# Altium footprint library PcbLib1_Source_IoT.PcbLib: 58 footprints (part 2 of 4)
Each footprint in its own frame and in the unit in brackets; x right, y up, seen from the top. Pads: shape width x height; smd on the part's side, far side on the other; paste and mask are expansions set on the pad; w line width, h text height; cw(c..) or ccw(c..) is an arc to the next point about the centre after c.
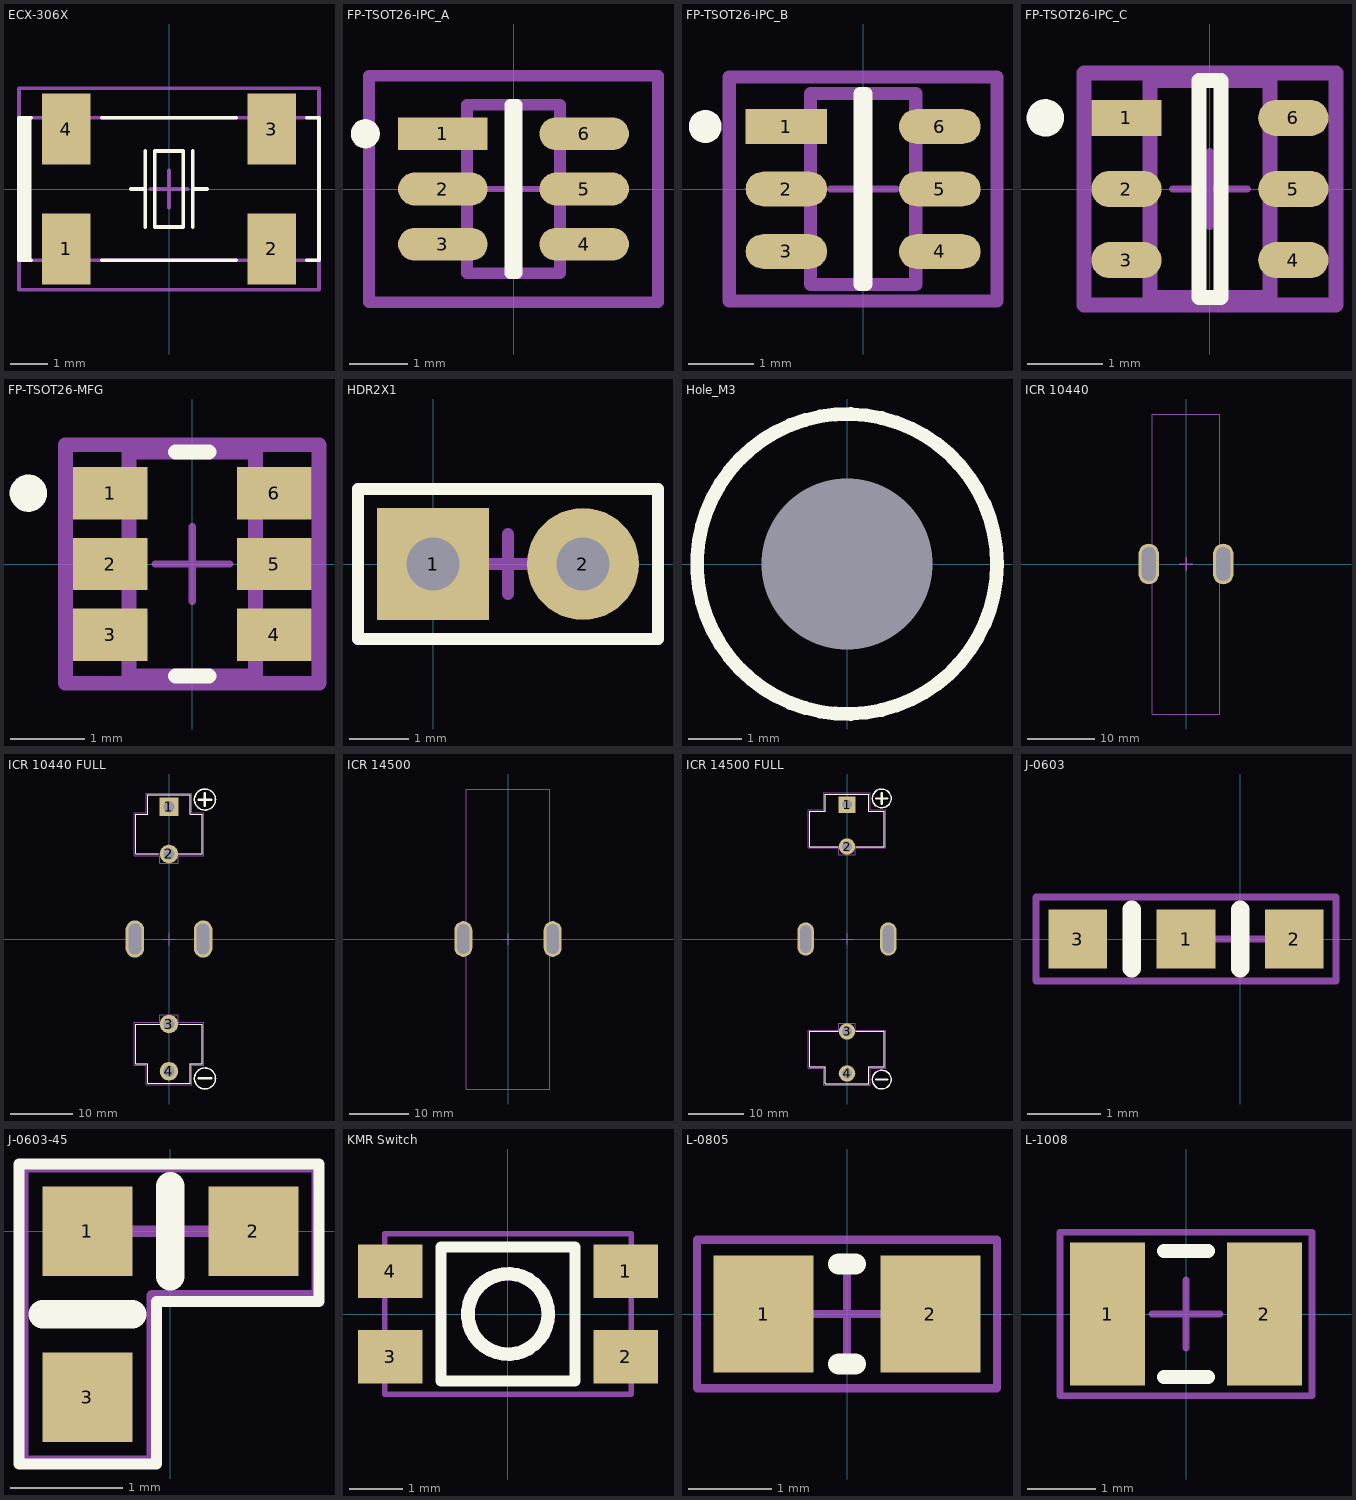
[diagram p1: the footprints below, top view; thin cyan lines are the x and y axes]

## ECX-306X [mm]
pads (4):
  rect 1.3x1.9 smd mask+0.1: 1(-2.75,-1.6) 2(2.75,-1.6) 3(2.75,1.6) 4(-2.75,1.6)
Top Overlay:
  rectangle: -4.013,-1.905 -3.683,1.905
  lines w0.1: -3.683,-1.905 -4.013,-1.905 -4.013,1.905 -3.683,1.905 ; -1.8,-1.905 1.8,-1.905 ; -1.8,1.905 1.8,1.905 ; -1.016,0 -0.635,0 ; -0.635,-1.016 -0.635,1.016 ; 0.635,-1.016 0.635,1.016 ; 0.635,0 1.016,0 ; 3.683,-1.905 4.013,-1.905 4.013,1.905 3.683,1.905 ; -0.381,-1.016 -0.381,1.016 0.381,1.016 0.381,-1.016 -0.381,-1.016
Top Assembly:
  lines w0.1: -4.013,-1.905 -4.013,1.905 4.013,1.905 4.013,-1.905 -4.013,-1.905
  text "'.Designator'" at -1.88,-0.381 h1.5
Mechanical:
  lines w0.1: -0.5,0 0.5,0 ; 0,-0.5 0,0.5 ; -4.013,-2.692 -4.013,2.692 4.013,2.692 4.013,-2.692 -4.013,-2.692
3D body "User Library-ZM206.step": height 2.53, standoff 0, extent -4,-1.9 4,1.9

## FP-TSOT26-IPC_A [mm]
pads (6):
  rect 1.54x0.566 smd paste+0 mask+0: 1(-1.216,0.95)
  rrect100% 1.54x0.566 smd paste+0 mask+0: 2(-1.216,0) 3(-1.216,-0.95) 4(1.216,-0.95) 5(1.216,0) 6(1.216,0.95)
Top Overlay:
  circle w0.25: c-2.55,0.95 r0.125
  lines w0.2: -0.054,-1.45 -0.054,1.45 0.054,1.45 0.054,-1.45 -0.054,-1.45
Top Assembly:
  lines w0.2: -2.485,-1.95 2.485,-1.95 2.485,1.95 -2.485,1.95 -2.485,-1.95
  text "'.Designator'" at 0,0.188 h1
Top Courtyard:
  lines w0.2: -2.485,-1.95 2.485,-1.95 2.485,1.95 -2.485,1.95 -2.485,-1.95
Top 3D Body:
  lines w0.2: -0.8,-1.45 0.8,-1.45 0.8,1.45 -0.8,1.45 -0.8,-1.45
Top Component Center:
  lines w0.1: -0.5,0 0.5,0 ; 0,-0.5 0,0.5
3D body "IC_Diodes_Inc_AP63205WU-7_eec.STEP": height 0.25, standoff 0, extent -2.485,-1.95 2.485,1.95

## FP-TSOT26-IPC_B [mm]
pads (6):
  rect 1.24x0.526 smd paste+0 mask+0: 1(-1.165,0.95)
  rrect100% 1.24x0.526 smd paste+0 mask+0: 2(-1.165,0) 3(-1.165,-0.95) 4(1.166,-0.95) 5(1.166,0) 6(1.166,0.95)
Top Overlay:
  circle w0.25: c-2.4,0.95 r0.125
  lines w0.2: -0.046,-1.45 -0.046,1.45 0.046,1.45 0.046,-1.45 -0.046,-1.45
Top Assembly:
  lines w0.2: -2.035,-1.7 -2.035,1.7 2.035,1.7 2.035,-1.7 -2.035,-1.7
  text "'.Designator'" at 0,0.188 h1
Top Courtyard:
  lines w0.2: -2.035,-1.7 -2.035,1.7 2.035,1.7 2.035,-1.7 -2.035,-1.7
Top 3D Body:
  lines w0.2: -0.8,-1.45 -0.8,1.45 0.8,1.45 0.8,-1.45 -0.8,-1.45
Top Component Center:
  lines w0.1: -0.5,0 0.5,0 ; 0,-0.5 0,0.5
3D body "IC_Diodes_Inc_AP63205WU-7_eec.STEP": height 0.25, standoff 0, extent -2.035,-1.7 2.035,1.7

## FP-TSOT26-IPC_C [mm]
pads (6):
  rect 0.94x0.486 smd paste+0 mask+0: 1(-1.115,0.95)
  rrect100% 0.94x0.486 smd paste+0 mask+0: 2(-1.115,0) 3(-1.115,-0.95) 4(1.116,-0.95) 5(1.116,0) 6(1.116,0.95)
Top Overlay:
  circle w0.25: c-2.2,0.95 r0.125
  lines w0.2: -0.146,-1.45 -0.146,1.45 0.146,1.45 0.146,-1.45 -0.146,-1.45
Top Assembly:
  lines w0.2: -1.685,-1.55 -1.685,1.55 1.685,1.55 1.685,-1.55 -1.685,-1.55
  text "'.Designator'" at 0,0.188 h1
Top Courtyard:
  lines w0.2: -1.685,-1.55 -1.685,1.55 1.685,1.55 1.685,-1.55 -1.685,-1.55
Top 3D Body:
  lines w0.2: -0.8,-1.45 -0.8,1.45 0.8,1.45 0.8,-1.45 -0.8,-1.45
Top Component Center:
  lines w0.1: -0.5,0 0.5,0 ; 0,-0.5 0,0.5
3D body "IC_Diodes_Inc_AP63205WU-7_eec.STEP": height 0.25, standoff 0, extent -1.685,-1.55 1.685,1.55

## FP-TSOT26-MFG [mm]
pads (6):
  rect 1x0.7 smd paste+0 mask+0: 1(-1.099,0.95) 2(-1.099,0) 3(-1.099,-0.95) 4(1.099,-0.95) 5(1.099,0) 6(1.099,0.95)
Top Overlay:
  circle w0.25: c-2.2,0.95 r0.125
  lines w0.2: -0.225,-1.5 0.225,-1.5 ; -0.225,1.5 0.225,1.5
Top Assembly:
  lines w0.2: -1.699,-1.6 -1.699,1.6 1.699,1.6 1.699,-1.6 -1.699,-1.6
  text "'.Designator'" at 0,0.188 h1
Top Courtyard:
  lines w0.2: -1.699,-1.6 -1.699,1.6 1.699,1.6 1.699,-1.6 -1.699,-1.6
Top 3D Body:
  lines w0.2: -0.85,-1.5 -0.85,1.5 0.85,1.5 0.85,-1.5 -0.85,-1.5
Top Component Center:
  lines w0.1: -0.5,0 0.5,0 ; 0,-0.5 0,0.5
3D body "IC_Diodes_Inc_AP63205WU-7_eec.STEP": height 0.25, standoff 0, extent -1.699,-1.6 1.699,1.6

## HDR2X1 [mm]
pads (2):
  rect 1.9x1.9 hole 0.9: 1(0,0)
  round 1.9 hole 0.9: 2(2.54,0)
Top Overlay:
  lines w0.2: -1.27,-1.27 -1.27,1.27 3.81,1.27 3.81,-1.27 -1.27,-1.27
Top Assembly:
  lines w0.2: -1.27,-1.27 -1.27,1.27 3.81,1.27 3.81,-1.27 -1.27,-1.27
  text "'.Designator'" at -0.508,-0.48 h1.5
Mechanical:
  lines w0.2: 0.762,0 1.778,0 ; 1.27,-0.508 1.27,0.508 ; -1.27,-1.27 -1.27,1.27 3.81,1.27 3.81,-1.27 -1.27,-1.27
3D body "TSW-101-07-G-D.stp": height 8.38, standoff -2.54, extent -1.27,-1.27 3.81,1.27

## Hole_M3 [mm]
pads (1):
  round 0 hole 3.2 unplated: 1(0,0)
Top Overlay:
  circle w0.254: c0,0 r2.8
Bottom Overlay:
  circle w0.254: c0,0 r2.8

## ICR 10440 [mm]
pads (2):
  oval 3x6 hole 5 slot 2 at 0 deg: ""(-5.5,0) ""(5.5,0)
Top Assembly:
  lines w0.1: -5,-22.15 -5,22.15 5,22.15 5,-22.15 -5,-22.15
  text "'.Designator'" at -1.725,-0.425 h1.5
Mechanical:
  lines w0.1: -5,-22.15 -5,22.15 5,22.15 5,-22.15 -5,-22.15
  lines w0.2: -1,0 1,0 ; 0,-1 0,1
3D body "User Library-li-ion (1).step": height 11.49, standoff 1.51, extent -5,-22.15 5,22.15

## ICR 10440 FULL [mm]
pads (6):
  rect 3x3 hole 1.8: 1(0,21.335)
  round 3 hole 1.8: 2(0,13.715) 3(0,-13.715) 4(0,-21.335)
  oval 3x6 hole 5 slot 2 at 0 deg: ""(-5.5,0) ""(5.5,0)
Top Overlay:
  circle w0.254: c5.8,22.5 r1.7
  circle w0.254: c5.8,-22.5 r1.7
  lines w0.127: -1.7,13.715 -5.33,13.715 -5.33,20.115 -3.45,20.115 -3.45,23.235 3.45,23.235 3.45,20.115 5.33,20.115 5.33,13.715 0.3,13.715 ; -0.3,-13.715 -5.33,-13.715 -5.33,-20.115 -3.45,-20.115 -3.45,-23.235 3.45,-23.235 3.45,-20.115 5.33,-20.115 5.33,-13.715 1.7,-13.715
  lines w0.4: 4.8,-22.5 6.8,-22.5 ; 4.8,22.5 6.8,22.5 ; 5.8,21.5 5.8,23.5
Top Assembly:
  lines w0.127: -5.33,-20.115 -5.33,-13.715 5.33,-13.715 5.33,-20.115 3.45,-20.115 3.45,-23.235 -3.45,-23.235 -3.45,-20.115 -5.33,-20.115 ; -5.33,13.715 -5.33,20.115 -3.45,20.115 -3.45,23.235 3.45,23.235 3.45,20.115 5.33,20.115 5.33,13.715 -5.33,13.715
Mechanical:
  lines w0.05: -5.6,-20.365 -3.7,-20.365 -3.7,-23.485 3.7,-23.485 3.7,-20.365 5.6,-20.365 5.6,-13.465 1.525,-13.465 1.525,-12.19 -1.525,-12.19 -1.525,-13.465 -5.6,-13.465 -5.6,-20.365 ; -5.6,13.465 -5.6,20.365 -3.7,20.365 -3.7,23.485 3.7,23.485 3.7,20.365 5.6,20.365 5.6,13.465 1.525,13.465 1.525,12.19 -1.525,12.19 -1.525,13.465 -5.6,13.465
  lines w0.2: -1,0 1,0 ; 0,-1 0,1
3D body "User Library-Keystone 82.step": height 12.7, standoff -3.94, extent -5.242,-23.701 5.242,-13.815
3D body "User Library-li-ion (1).step": height 11.49, standoff 1.51, extent -5,-22.15 5,22.15
3D body "User Library-Keystone 82.step": height 12.7, standoff -3.94, extent -5.242,13.815 5.242,23.701

## ICR 14500 [mm]
pads (2):
  oval 3x6 hole 5 slot 2 at 0 deg: ""(-7.5,0) ""(7.5,0)
Top Assembly:
  lines w0.1: -7,-25.2 -7,25.2 7,25.2 7,-25.2 -7,-25.2
  text "'.Designator'" at -1.75,-0.375 h1.5
Mechanical:
  lines w0.1: -7,-25.2 -7,25.2 7,25.2 7,-25.2 -7,-25.2
  lines w0.2: -1,0 1,0 ; 0,-1 0,1
3D body "User Library-li-ion.step": height 15.98, standoff 2.02, extent -7,-25.2 7,25.2

## ICR 14500 FULL [mm]
pads (6):
  rect 3x3 hole 1.8: 1(0,24.385)
  round 3 hole 1.8: 2(0,16.765) 3(0,-16.765) 4(0,-24.385)
  oval 3x6 hole 5 slot 2 at 0 deg: ""(-7.5,0) ""(7.5,0)
Top Overlay:
  circle w0.254: c6.3,25.5 r1.7
  circle w0.254: c6.3,-25.5 r1.7
  lines w0.127: -1.7,-16.765 -6.73,-16.765 -6.73,-23.165 -3.95,-23.165 -3.95,-26.285 3.95,-26.285 3.95,-23.165 6.73,-23.165 6.73,-16.765 1.7,-16.765 ; -1.7,16.765 -6.73,16.765 -6.73,23.165 -3.95,23.165 -3.95,26.285 3.95,26.285 3.95,23.165 6.73,23.165 6.73,16.765 1.7,16.765
  lines w0.4: 5.3,-25.5 7.3,-25.5 ; 5.3,25.5 7.3,25.5 ; 6.3,24.5 6.3,26.5
Top Assembly:
  lines w0.127: -6.73,-23.165 -3.95,-23.165 -3.95,-26.285 3.95,-26.285 3.95,-23.165 6.73,-23.165 6.73,-16.765 -6.73,-16.765 -6.73,-23.165 ; -6.73,16.765 -6.73,23.165 -3.95,23.165 -3.95,26.285 3.95,26.285 3.95,23.165 6.73,23.165 6.73,16.765 -6.73,16.765
Mechanical:
  lines w0.05: -7,-23.415 -7,-16.515 -1.525,-16.515 -1.525,-15.24 1.525,-15.24 1.525,-16.515 7,-16.515 7,-23.415 4.2,-23.415 4.2,-26.535 -4.2,-26.535 -4.2,-23.415 -7,-23.415 ; -7,16.515 -7,23.415 -4.2,23.415 -4.2,26.535 4.2,26.535 4.2,23.415 7,23.415 7,16.515 1.525,16.515 1.525,15.24 -1.525,15.24 -1.525,16.515 -7,16.515
  lines w0.2: -1,0 1,0 ; 0,-1 0,1
3D body "User Library-KEYSTONE_AA_battery_clip_92.STEP": height 3.56, standoff -15.8, extent -7.6,16.701 7.6,26.215
3D body "User Library-KEYSTONE_AA_battery_clip_92.STEP": height 3.56, standoff -15.8, extent -7.6,-26.215 7.6,-16.701
3D body "User Library-li-ion.step": height 15.58, standoff 1.62, extent -7,-25.2 7,25.2

## J-0603 [mm]
pads (3):
  rect 0.8x0.8 smd mask+0.1: 1(-0.74,0) 2(0.74,0) 3(-2.22,0)
Top Overlay:
  lines w0.254: -1.48,-0.4 -1.48,0.4 ; 0,-0.4 0,0.4
Top Assembly:
  lines w0.1: -2.79,-0.575 -2.79,0.575 1.31,0.575 1.31,-0.575 -2.79,-0.575
  text "'.Designator'" at -0.84,-0.375 h1.2
Mechanical:
  lines w0.1: -1.315,-0.575 1.31,-0.575 1.31,0.575 -1.315,0.575 -0.165,0.575 -2.79,0.575 -2.79,-0.575 -0.165,-0.575 ; -0.375,0 0.375,0 ; 0,-0.375 0,0.375
3D body "User Library-Chip Resistor_0603 (1608).step": height 0.47, standoff 0, extent -0.8,-0.401 0.8,0.401

## J-0603-45 [mm]
pads (3):
  rect 0.8x0.8 smd mask+0.1: 1(-0.74,0) 2(0.74,0) 3(-0.74,-1.48)
Top Overlay:
  lines w0.1: -1.35,-2.075 -1.35,0.6 1.325,0.6 1.325,-0.625 -0.125,-0.625 -0.125,-2.075 -1.35,-2.075
  lines w0.254: -1.14,-0.74 -0.34,-0.74 ; 0,-0.4 0,0.4
Top Assembly:
  lines w0.1: -1.315,-2.05 -1.315,0.575 1.31,0.575 1.31,-0.575 -0.165,-0.575 -0.165,-2.05 -1.315,-2.05
  text "'.Designator'" at -0.84,-0.375 h1.2
Mechanical:
  lines w0.1: -0.375,0 0.375,0 ; 0,-0.375 0,0.375 ; -1.315,-2.05 -0.165,-2.05 -0.165,-0.575 1.31,-0.575 1.31,0.575 -1.315,0.575 -1.315,-2.05
3D body "User Library-Chip Resistor_0603 (1608).step": height 0.47, standoff 0, extent -0.8,-0.401 0.8,0.401

## KMR Switch [mm]
pads (4):
  rect 1.2x1 smd: 1(2.2,0.8) 2(2.2,-0.8) 3(-2.2,-0.8) 4(-2.2,0.8)
Top Overlay:
  circle w0.254: c0,0 r0.75
  lines w0.2: -1.25,-1.25 1.25,-1.25 1.25,1.25 -1.25,1.25 -1.25,-1.25
Top Assembly:
  circle w0.254: c0,0 r0.75
  lines w0.1: -2.3,-1.5 -2.3,1.5 2.3,1.5 2.3,-1.5 -2.3,-1.5
  text "'.Designator'" at 1.225,1.15 h1.2
3D body "User Library-Switch-CK-KMR2.STEP": height 2.1, standoff 0, extent -2.3,-1.5 2.3,1.5

## L-0805 [mm]
pads (2):
  rect 1.2x1.4 smd: 1(-1,0) 2(1,0)
Top Overlay:
  lines w0.254: -0.1,-0.6 0.1,-0.6 ; -0.1,0.6 0.1,0.6
Top Assembly:
  lines w0.1: -1.8,-0.889 1.8,-0.889 1.8,0.889 -1.8,0.889 -1.8,-0.889
  text "'.Designator'" at -0.75,-0.35 h1.2
Mechanical:
  lines w0.1: -0.5,0 0.5,0 ; 0,-0.5 0,0.5 ; -1.8,-0.889 1.8,-0.889 1.8,0.889 -1.8,0.889 -1.8,-0.889
3D body "74479023.stp": height 1.25, standoff 0, extent -1,-0.625 1,0.625

## L-1008 [mm]
pads (2):
  rect 1.1x2.1 smd: 1(-1.15,0) 2(1.15,0)
Top Overlay:
  lines w0.2: -0.325,-0.925 0.325,-0.925 ; -0.325,0.925 0.325,0.925
Top Assembly:
  lines w0.1: -1.85,-1.2 1.85,-1.2 1.85,1.2 -1.85,1.2 -1.85,-1.2
  text "'.Designator'" at -0.75,-0.35 h1.2
Mechanical:
  lines w0.1: -0.5,0 0.5,0 ; 0,-0.5 0,0.5 ; -1.85,-1.2 1.85,-1.2 1.85,1.2 -1.85,1.2 -1.85,-1.2
3D body "User Library-L1008x0_9.step": height 0.9, standoff 0, extent -1.25,-1 1.25,1